# EAGLE library part 74*38 (library 74xx-us)
QUAD NAND GATE
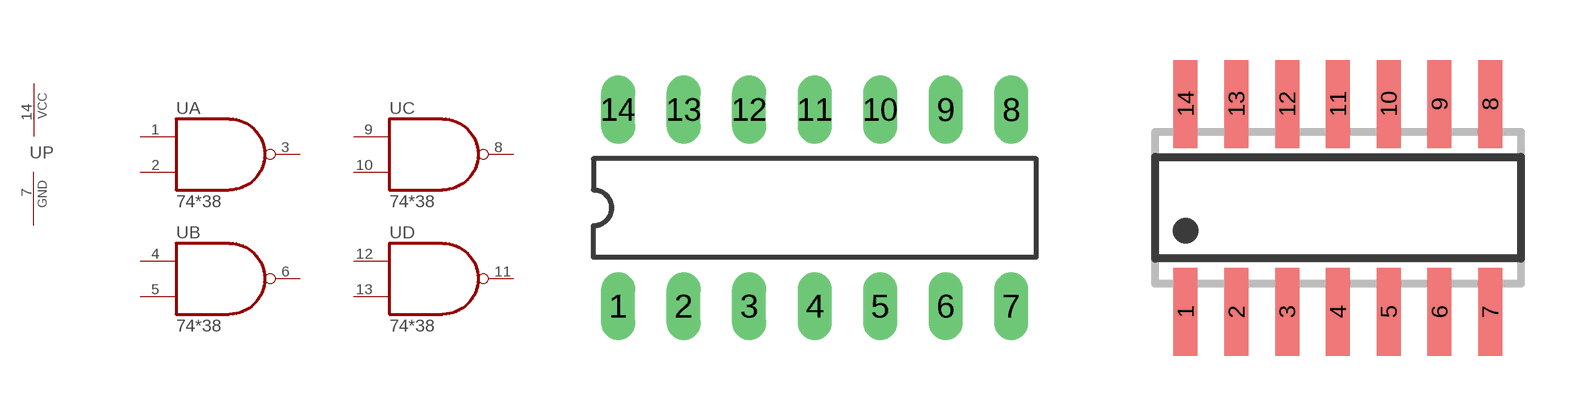
[diagram p329: symbol with the pads of DIL14; footprints DIL14, SO14]

Designator prefix U; gates A=7438 B=7438 C=7438 D=7438 P=PWRN

## 7438N  [DIL14]
1  A:A  in
2  A:B  in
3  A:Y  oc
4  B:A  in
5  B:B  in
6  B:Y  oc
7  P:GND  pwr
8  C:Y  oc
9  C:A  in
10  C:B  in
11  D:Y  oc
12  D:A  in
13  D:B  in
14  P:VCC  pwr

## 7438D  [SO14]
Pads as for DIL14

## Footprint DIL14 (pad centres in mm)
Dual In Line Package
drill 0.813 long: 1 -7.62,-3.81; 2 -5.08,-3.81; 3 -2.54,-3.81; 4 0,-3.81; 5 2.54,-3.81; 6 5.08,-3.81; 7 7.62,-3.81; 8 7.62,3.81; 9 5.08,3.81; 10 2.54,3.81; 11 0,3.81; 12 -2.54,3.81; 13 -5.08,3.81; 14 -7.62,3.81

## Footprint SO14 (pad centres in mm)
SMALL OUTLINE INTEGRATED CIRCUIT body 3.9 mm/JEDEC MS-012AC
smd 0.6 x 2.2: 1 -3.81,-2.6; 2 -2.54,-2.6; 3 -1.27,-2.6; 4 0,-2.6; 5 1.27,-2.6; 6 2.54,-2.6; 7 3.81,-2.6; 8 3.81,2.6; 9 2.54,2.6; 10 1.27,2.6; 11 0,2.6; 12 -1.27,2.6; 13 -2.54,2.6; 14 -3.81,2.6